# Altium schematic symbol library PAD135.Schlib: 1 symbol
Pins are listed as number, name and electrical type; pins without a type are passive.

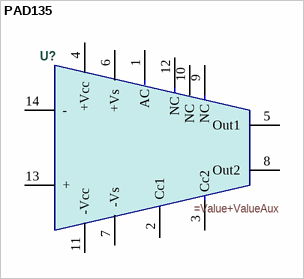
[diagram p0: symbol PAD135]

## PAD135
designator U?
=Description
pins: 1 AC, 2 Cc1, 3 Cc2, 4 +Vcc, 5 Out1, 6 +Vs, 7 -Vs, 8 Out2, 9 NC, 10 NC, 11 -Vcc, 12 NC, 13 +, 14 -